# EAGLE library part NRF24L01 (library funkmodule)
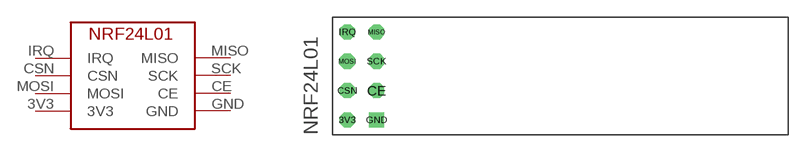
[diagram p0: symbol with the pads of NRF24L01; footprint NRF24L01]

Designator prefix -

## NRF24L01  [NRF24L01]
3V3  3V3  sup
CE  CE  in
CSN  CSN  in
GND  GND  pwr
IRQ  IRQ
MISO  MISO  out
MOSI  MOSI  in
SCK  SCK  in

## Footprint NRF24L01 (pad centres in mm)
drill 0.8 octagon: 3V3 -2.54,0; CE 0,2.54; CSN -2.54,2.54; IRQ -2.54,7.62; MISO 0,7.62; MOSI -2.54,5.08; SCK 0,5.08
drill 0.8 square: GND 0,0